# Altium footprint library 器件封装.PCBLIB: 225 footprints (part 15 of 15)
Each footprint in its own frame and in the unit in brackets; x right, y up, seen from the top. Pads: shape width x height; smd on the part's side, far side on the other; paste and mask are expansions set on the pad; w line width, h text height; cw(c..) or ccw(c..) is an arc to the next point about the centre after c.
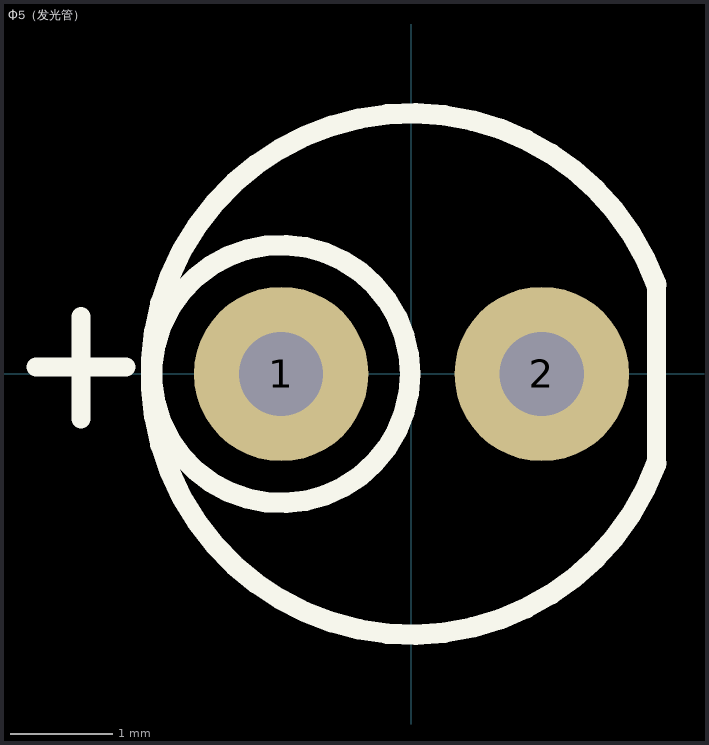
[diagram p14: the footprint, top view; thin cyan lines are the x and y axes]

## Φ5（发光管） [mm]
pads (2):
  round 1.7 hole 0.82: 1(-1.27,0) 2(1.27,0)
TopOverlay:
  circle w0.2: c-1.27,0 r1.257
  lines w0.185: -3.66,0.07 -2.78,0.07 ; -3.22,-0.44 -3.22,0.56 ; 2.387,-0.869 2.387,0.869
  lines w0.2: 2.387,-0.869 cw(c0,0) 2.387,0.869